# EAGLE library part 1-794623-0 (library con-amp)
MICRO MATE N LOK Dual Row, grid 1.5 mm Source: http://catalog.tycoelectronics.com .. ENG_CD_794623_F.pdf
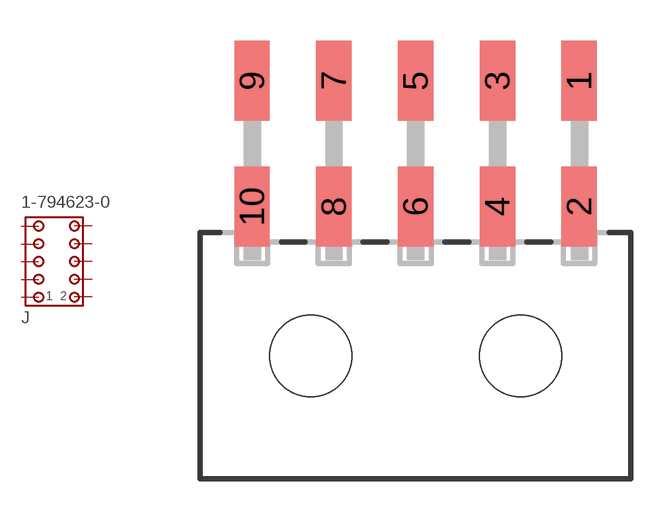
[diagram p148: symbol with the pads of 1-794623-0; footprint 1-794623-0]

Designator prefix J

## 1-794623-0 (MF: TYCO ELECTRONICS; MPN: 1-794623-0; OC_FARNELL: unknown; OC_NEWARK: 10H3682)  [1-794623-0]
1  1  pas
2  2  pas
3  3  pas
4  4  pas
5  5  pas
6  6  pas
7  7  pas
8  8  pas
9  9  pas
10  10  pas

## Footprint 1-794623-0 (pad centres in mm)
MICRO MATE N LOK Dual Row, grid 1.5 mm Source: http://catalog.tycoelectronics.com .. ENG_CD_794623_F.pdf
smd 1.3 x 2.92: 1 6,10.1; 2 6,5.48; 3 3,10.1; 4 3,5.48; 5 0,10.1; 6 0,5.48; 7 -3,10.1; 8 -3,5.48; 9 -6,10.1; 10 -6,5.48
hole 3 at -3.85,0
hole 3 at 3.85,0